# Altium schematic symbol library MEM2090-00-145-00-A.SchLib: 1 symbol
Pins are listed as number, name and electrical type; pins without a type are passive.

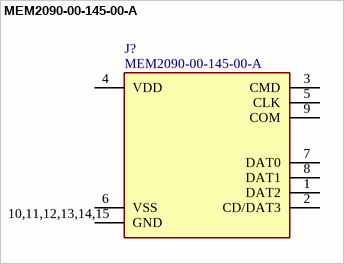
[diagram p0: symbol MEM2090-00-145-00-A]

## MEM2090-00-145-00-A
designator J?
Memory Card Connectors Micro SD Push-Push, Normaly Open, SMT, 1.45mm Profile, No Peg; Manufacturer_Name: GCT (GLOBAL CONNECTOR TECHNOLOGY); Geometry.Height: 1.6mm; Mouser Part Number: 640-MEM20900014500A; Mouser Price/Stock: https://www.mouser.co.uk/ProductDetail/GCT/MEM2090-00-145-00-A?qs=jRuttqqUwMR0RI4XLNZI4Q%3D%3D; Manufacturer_Part_Number: MEM2090-00-145-00-A; Datasheet Link: https://www.mouser.at/datasheet/2/837/mem2090-3435332.pdf
footprint MEM20900014500A
pins: 1 DAT2, 2 CD/DAT3, 3 CMD, 4 VDD, 5 CLK, 6 VSS, 7 DAT0, 8 DAT1, 9 COM, 10,11,12,13,14,15 GND